# Altium schematic symbol library Components - 12.02.20 - 19.52.SchLib: 1 symbol
Pins are listed as number, name and electrical type; pins without a type are passive.

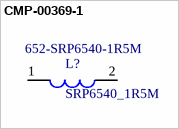
[diagram p0: symbol CMP-00369-1]

## CMP-00369-1
designator L?, comment SRP6540_1R5M  Supplier Part Number 1: 652-SRP6540-1R5M
1.5µH Shielded Wirewound Inductor 11A 10 mOhm Max Nonstandard; Manufacturer: Bourns; Manufacturer Part Number: SRP6540-1R5M; SVHC: No SVHC (16-Dec-2013); Product Range: BOURNS - SRP6540 Series; Inductance Tolerance: ± 20%; DC Resistance Max: 0.01ohm; Supplier 1: Mouser; Stock 1: 1156; Pricing 1: 1=1.18, 10=1.04, 50=0.888, 100=0.843, 1000=0.68, 10000=0.492 (USD); Saturation Current (Isat): 11A; Case Dimensions: 7.2mm x 6.5mm x 4mm; Inductance: 1.5µH; Inductor Construction: Shielded; RMS Current (Irms): 11A; Packaging: Each; ComponentLink1URL: https://datasheet.ciiva.com/15027/srp6540-15027285.pdf; ComponentLink1Description: https://datasheet.ciiva.com/15027/srp6540-15027285.pdf; ComponentLink2URL: https://datasheet.ciiva.com/15027/srp6540-15027286.pdf; ComponentLink2Description: https://datasheet.ciiva.com/15027/srp6540-15027286.pdf; ComponentLink3URL: https://datasheet.ciiva.com/15027/srp6540-15027287.pdf; ComponentLink3Description: https://datasheet.ciiva.com/15027/srp6540-15027287.pdf; ComponentLink4URL: https://datasheet.ciiva.com/22667/1698468-22667146.pdf; ComponentLink4Description: https://datasheet.ciiva.com/22667/1698468-22667146.pdf; ComponentLink5URL: https://datasheet.ciiva.com/17000/70281705-17000734.pdf; ComponentLink5Description: https://datasheet.ciiva.com/17000/70281705-17000734.pdf; ComponentLink6URL: https://datasheet.ciiva.com/28679/1698468-28679550.pdf; ComponentLink6Description: https://datasheet.ciiva.com/28679/1698468-28679550.pdf; SchLibComponentName: SRP6540_1R5M
footprint SRP6540_1R5M (SRP6540  Series - Shielded Power Inductors)
footprint SRP6540_1R5M (SRP6540  Series - Shielded Power Inductors)
pins: 1, 2